# Altium schematic symbol library Mounting_Hole_Plated.SchLib: 1 symbol
Pins are listed as number, name and electrical type; pins without a type are passive.

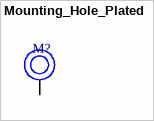
[diagram p0: symbol Mounting_Hole_Plated]

## Mounting_Hole_Plated
designator M?  (value not drawn)
pins: 1